# EAGLE library part AD736R (library analog-devices_custom)
ANALOG DEVICES
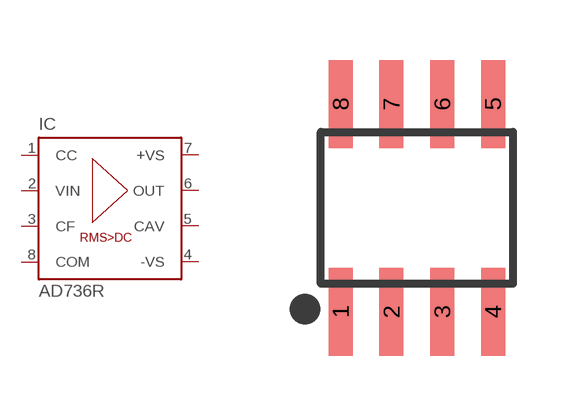
[diagram p21: symbol with the pads of SO8; footprint SO8]

Designator prefix IC

## AD736R (MPN: AD736JRZ; OC_FARNELL: 1701156; OC_NEWARK: 19M0863)  [SO8]
1  CC  pas
2  VIN  in
3  CF  pas
4  -VS  pwr
5  CAV  out
6  OUT  out
7  +VS  pwr
8  COM  pwr

## Footprint SO8 (pad centres in mm)
SMALL OUTLINE INTEGRATED CIRCUIT SOP-8L Source: http://www.diodes.com/datasheets/ds31262.pdf
smd 0.6 x 2.2: 1 -1.905,-2.6; 2 -0.635,-2.6; 3 0.635,-2.6; 4 1.905,-2.6; 5 1.905,2.6; 6 0.635,2.6; 7 -0.635,2.6; 8 -1.905,2.6